# EAGLE library part ATMEGA128RFA1-*-? (library shcustomlib)
ATMEGA128RFA1 Package(s): QFN64 (9x9 mm) Manufacturer(s): Microchip Technology/Atmel The ATMEGA128RFA1-ZU is a 8-bit low-power CMOS Microcontroller based on the AVR enhanced RISC architecture combined with a high data rate transceiver for the 2.4GHz ISM band. By executing powerful instructions in a single clock cycle, the device achieves throughputs approaching 1MIPS per MHz allowing the system designer to optimize power consumption versus processing speed. The radio transceiver provides high data rates from 250kBps up to 2Mbps, frame handling, outstanding receiver sensitivity and high transmit output power enabling a very robust wireless communication.
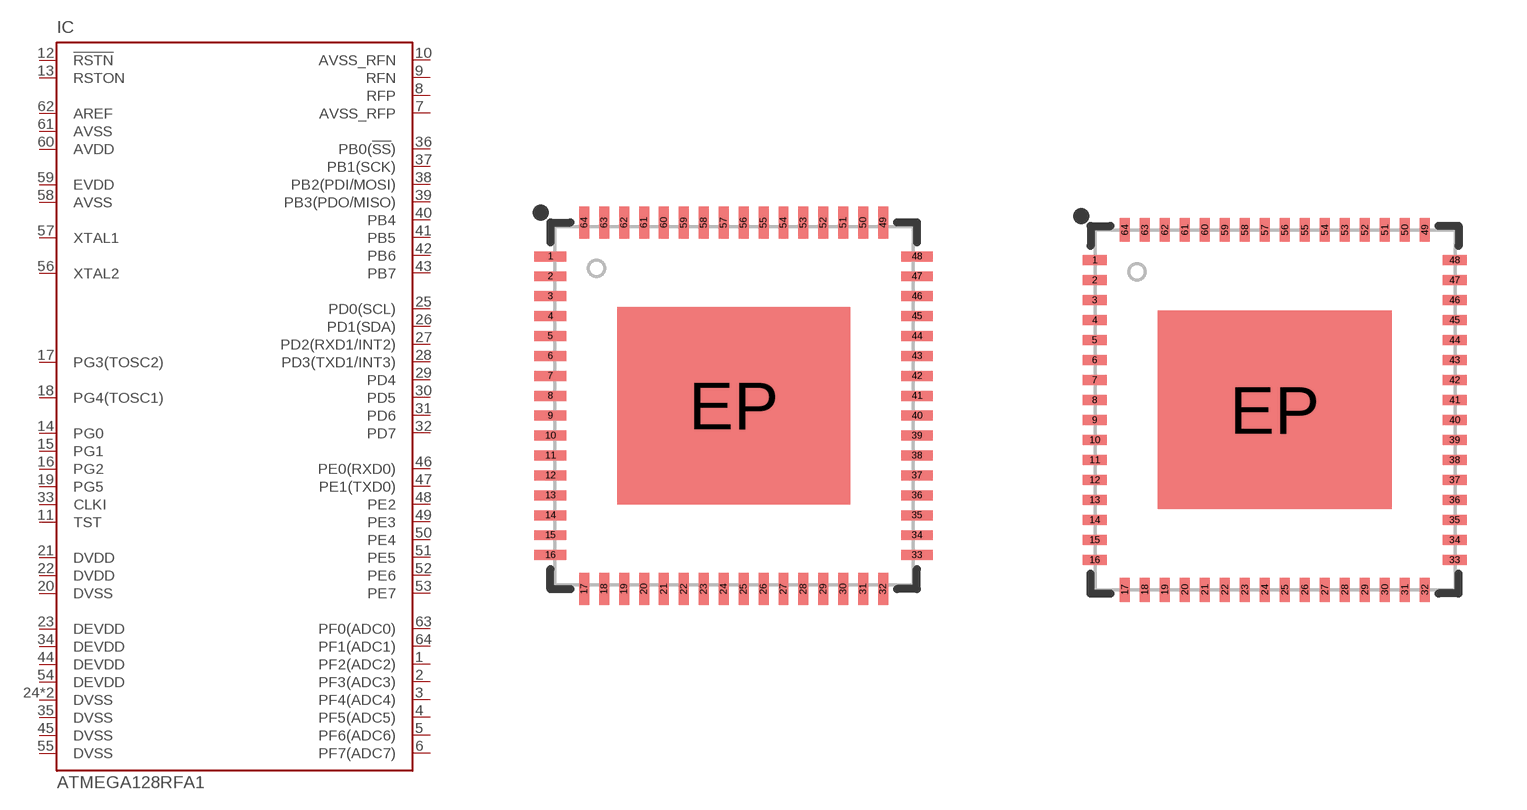
[diagram p6: symbol with the pads of QFN-64-9X9MM-HS; footprints QFN-64-9X9MM-HS, QFN-64-9X9MM]

Designator prefix IC

## ATMEGA128RFA1-ZU-QFN64-HS  [QFN-64-9X9MM-HS]
1  PF2(ADC2)
2  PF3(ADC3)
3  PF4(ADC4)
4  PF5(ADC5)
5  PF6(ADC6)
6  PF7(ADC7)
7  AVSS_RFP
8  RFP
9  RFN
10  AVSS_RFN
11  TST
12  !RSTN!
13  RSTON
14  PG0
15  PG1
16  PG2
17  PG3(TOSC2)
18  PG4(TOSC1)
19  PG5
20  DVSS
21  DVDD
22  DVDD
23  DEVDD
24  DVSS
25  PD0(SCL)
26  PD1(SDA)
27  PD2(RXD1/INT2)
28  PD3(TXD1/INT3)
29  PD4
30  PD5
31  PD6
32  PD7
33  CLKI
34  DEVDD
35  DVSS
36  PB0(!SS!)
37  PB1(SCK)
38  PB2(PDI/MOSI)
39  PB3(PDO/MISO)
40  PB4
41  PB5
42  PB6
43  PB7
44  DEVDD
45  DVSS
46  PE0(RXD0)
47  PE1(TXD0)
48  PE2
49  PE3
50  PE4
51  PE5
52  PE6
53  PE7
54  DEVDD
55  DVSS
56  XTAL2
57  XTAL1
58  AVSS
59  EVDD
60  AVDD
61  AVSS
62  AREF
63  PF0(ADC0)
64  PF1(ADC1)
EP  DVSS

## ATMEGA128RFA1-ZU-QFN64  [QFN-64-9X9MM]
Pads as for QFN-64-9X9MM-HS

## Footprint QFN-64-9X9MM-HS (pad centres in mm)
smd 0.8 x 0.25: 1 -4.6,3.75; 2 -4.6,3.25; 3 -4.6,2.75; 4 -4.6,2.25; 5 -4.6,1.75; 6 -4.6,1.25; 7 -4.6,0.75; 8 -4.6,0.25; 9 -4.6,-0.25; 10 -4.6,-0.75; 11 -4.6,-1.25; 12 -4.6,-1.75; 13 -4.6,-2.25; 14 -4.6,-2.75; 15 -4.6,-3.25; 16 -4.6,-3.75; 33 4.6,-3.75; 34 4.6,-3.25; 35 4.6,-2.75; 36 4.6,-2.25; 37 4.6,-1.75; 38 4.6,-1.25; 39 4.6,-0.75; 40 4.6,-0.25; 41 4.6,0.25; 42 4.6,0.75; 43 4.6,1.25; 44 4.6,1.75; 45 4.6,2.25; 46 4.6,2.75; 47 4.6,3.25; 48 4.6,3.75
smd 0.25 x 0.8: 17 -3.75,-4.6; 18 -3.25,-4.6; 19 -2.75,-4.6; 20 -2.25,-4.6; 21 -1.75,-4.6; 22 -1.25,-4.6; 23 -0.75,-4.6; 24 -0.25,-4.6; 25 0.25,-4.6; 26 0.75,-4.6; 27 1.25,-4.6; 28 1.75,-4.6; 29 2.25,-4.6; 30 2.75,-4.6; 31 3.25,-4.6; 32 3.75,-4.6; 49 3.75,4.6; 50 3.25,4.6; 51 2.75,4.6; 52 2.25,4.6; 53 1.75,4.6; 54 1.25,4.6; 55 0.75,4.6; 56 0.25,4.6; 57 -0.25,4.6; 58 -0.75,4.6; 59 -1.25,4.6; 60 -1.75,4.6; 61 -2.25,4.6; 62 -2.75,4.6; 63 -3.25,4.6; 64 -3.75,4.6
smd 5.85 x 4.95: EP 0,0

## Footprint QFN-64-9X9MM (pad centres in mm)
smd 0.6 x 0.25: 1 -4.5,3.75; 2 -4.5,3.25; 3 -4.5,2.75; 4 -4.5,2.25; 5 -4.5,1.75; 6 -4.5,1.25; 7 -4.5,0.75; 8 -4.5,0.25; 9 -4.5,-0.25; 10 -4.5,-0.75; 11 -4.5,-1.25; 12 -4.5,-1.75; 13 -4.5,-2.25; 14 -4.5,-2.75; 15 -4.5,-3.25; 16 -4.5,-3.75; 33 4.5,-3.75; 34 4.5,-3.25; 35 4.5,-2.75; 36 4.5,-2.25; 37 4.5,-1.75; 38 4.5,-1.25; 39 4.5,-0.75; 40 4.5,-0.25; 41 4.5,0.25; 42 4.5,0.75; 43 4.5,1.25; 44 4.5,1.75; 45 4.5,2.25; 46 4.5,2.75; 47 4.5,3.25; 48 4.5,3.75
smd 0.25 x 0.6: 17 -3.75,-4.5; 18 -3.25,-4.5; 19 -2.75,-4.5; 20 -2.25,-4.5; 21 -1.75,-4.5; 22 -1.25,-4.5; 23 -0.75,-4.5; 24 -0.25,-4.5; 25 0.25,-4.5; 26 0.75,-4.5; 27 1.25,-4.5; 28 1.75,-4.5; 29 2.25,-4.5; 30 2.75,-4.5; 31 3.25,-4.5; 32 3.75,-4.5; 49 3.75,4.5; 50 3.25,4.5; 51 2.75,4.5; 52 2.25,4.5; 53 1.75,4.5; 54 1.25,4.5; 55 0.75,4.5; 56 0.25,4.5; 57 -0.25,4.5; 58 -0.75,4.5; 59 -1.25,4.5; 60 -1.75,4.5; 61 -2.25,4.5; 62 -2.75,4.5; 63 -3.25,4.5; 64 -3.75,4.5
smd 5.85 x 4.95: EP 0,0